# Altium integrated library MotorDrive.IntLib: 32 symbols
Pins are listed as number, name and electrical type; pins without a type are passive.

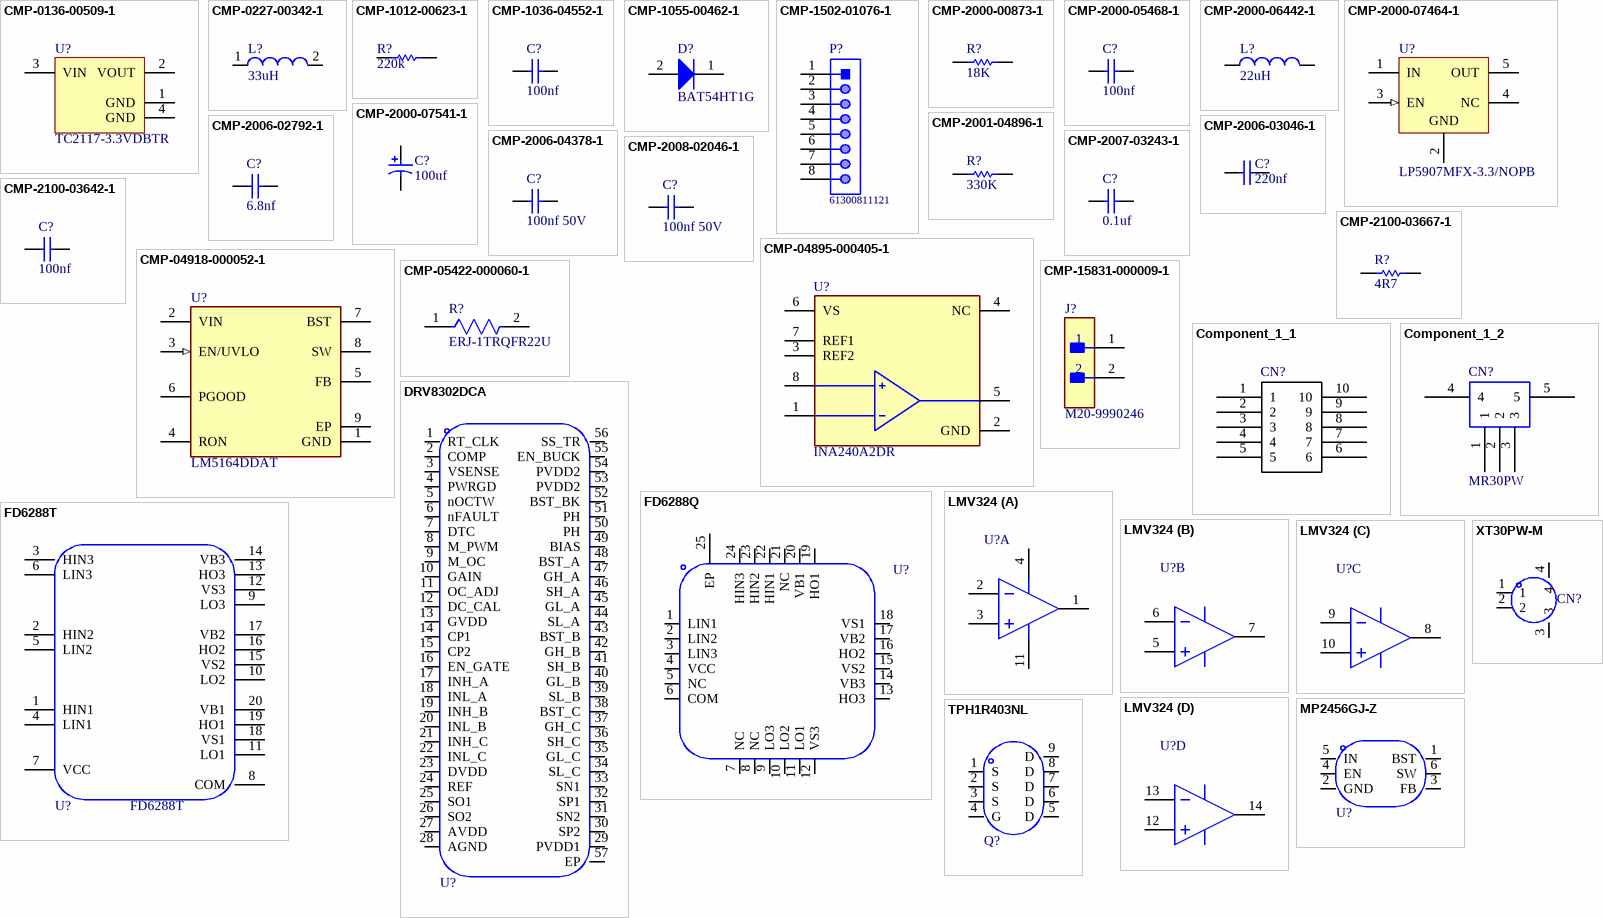
[diagram p0: symbols CMP-0136-00509-1 to XT30PW-M]

## CMP-0136-00509-1
designator U?, comment TC2117-3.3VDBTR
800 mA Fixed Low Dropout Positive Regulator, 3-Pin SOT-223, Extended Temperature, Tape and Reel; PackageVersion: revBB, Aug-2009; DatasheetVersion: revC, Oct-2006; PackageReference: SOT-223-DB3; PackageDescription: 3-Lead Plastic Small Outline Transistor (DB) [SOT-223]
footprint SOT-223-DB3_N (SOT223, 4-Leads, Body 6.5x3.5mm, Pitch 2.3mm, Lead Span 7mm, IPC Medium Density)
footprint SOT-223-DB3_L (SOT223, 4-Leads, Body 6.5x3.5mm, Pitch 2.3mm, Lead Span 7mm, IPC High Density)
footprint SOT-223-DB3_M (SOT223, 4-Leads, Body 6.5x3.5mm, Pitch 2.3mm, Lead Span 7mm, IPC Low Density)
pins: 1 GND (power), 2 VOUT (power), 3 VIN (power), 4 GND (power)

## CMP-0227-00342-1
designator L?, comment 33uH
SMD Shielded Tiny Power Inductor WE-TPC, L = 33.0 µH; Inductance: 33.0 ÂµH; ComponentLink2URL: http://www.we-online.de/katalog/media/pdf/744043330.pdf; PackageDescription: SMD Inductor, 2-Leads, Body 4.8 x 4.8 mm; DatasheetVersion: ver 6, Aug-2010; ComponentLink1Description: Manufacturer Link; ComponentLink2Description: Datasheet; PackageVersion: 2010; ComponentLink1URL: http://www.we-online.com; PackageReference: WE-TPC-4828-MH
footprint WE-TPC-4828-MH (SMD Inductor, 2-Leads, Body 4.8x4.8x3.0 mm)
pins: 1, 2

## CMP-1012-00623-1
designator R?, comment 220k
10K 0.1W 1% 0603 (1608 Metric)  SMD; Value: 10000.00 Ohm; Case-EIA: 0603; Case-Metric: 1608; Power: 0.1 W; Tolerance: 1 %; Technology: SMT
footprint RESC0603(1608)_N (Chip Resistor, Body 1.6x0.8mm, IPC Medium Density)
footprint RESC0603(1608)_L (Chip Resistor, Body 1.6x0.8mm, IPC High Density)
footprint RESC0603(1608)_M (Chip Resistor, Body 1.6x0.8mm, IPC Low Density)
pins: 1, 2
1 alternate drawing of the same symbol

## CMP-1036-04552-1
designator C?, comment 100nf
CAP 220nF 50V ±10% 0805 (2012 Metric) Thickness 1.45mm SMD; Tolerance: Â±10%; Case-Metric: 2012; Case-EIA: 0805; Value: 220nF; Max Thickness: 1.45 mm; Technology: SMT; Rated Voltage: 50 V
footprint CAPC0805(2012)145_N (Chip Capacitor, Body 2.0x1.2mm, Height 1.45mm, IPC Medium Density)
footprint CAPC0805(2012)145_L (Chip Capacitor, Body 2.0x1.2mm, Height 1.45mm, IPC High Density)
footprint CAPC0805(2012)145_M (Chip Capacitor, Body 2.0x1.2mm, Height 1.45mm, IPC Low Density)
pins: 1, 2
1 alternate drawing of the same symbol

## CMP-1055-00462-1
designator D?, comment BAT54HT1G
Schottky Barrier Diode, 2-Pin SOD-323, Pb-Free, Tape and Reel; Manufacturer: On Semiconductor; Configuration: Single; trr Max (ns): 5; IFSM Max (A): 0.6; ComponentLink3URL: http://www.onsemi.com/pub_link/Collateral/477-02.PDF.1; PackageDescription: 2-Pin SOD, Body 1.7 x 1.25 mm; ComponentLink2URL: http://www.onsemi.cn/pub_link/Collateral/BAT54HT1-D.PDF; ComponentLink3Description: Package Specification; ComponentLink2Description: Datasheet; DatasheetVersion: Rev. 6; PackageReference: SOD-323-2-477-02; RoHS: TRUE; ComponentLink1URL: http://www.onsemi.com/; Packing: Tape and Reel; PartNumber: BAT54HT1G; Mounting Technology: Surface Mount; ComponentLink1Description: Manufacturer URL; PackageVersion: Rev. H, 03/2007
footprint ONSC-SOD-323-2-477-02_V (SOD, 2-Leads, Body 1.7x1.25mm)
pins: 1 K, 2 A

## CMP-1502-01076-1
designator P?, comment 61300811121
THT Vertical Pin Header WR-PHD, Pitch 2.54 mm, Single Row, 8 pins; Manufacturer: Wurth Elektronik; Rated Current: 3A; Pin Number: 8; Working Voltage: 250VAC; Gender: Male; Contact Resistance: 20mOhm; Pitch: 2.54mm; Withstanding Voltage: 500VAC; Publisher: WurthElektronik; Operating Temperature: -40to105degC; Orientation: Vertical; Row Number: Single; Part Number: 61300811121; Package Reference: 61300811121; Mounting Technology: THT; Packaging: Bag; Manufacturer URL: http://www.we-online.de; Datasheet URL: https://katalog.we-online.de/em/datasheet/6130xx11121.pdf
footprint 61300811121 (Pin Header, pitch 2.54 mm, THT, Vertical, single row, 8p)
pins: 1, 2, 3, 4, 5, 6, 7, 8

## CMP-2000-00873-1
designator R?, comment 18K
Manufacturer: Panasonic; Part Number: ERA3AEB102V
footprint RESC1608X55X30LL20T20 (Chip Resistor, 2-Leads, Body 1.60x0.80mm, IPC High Density)
footprint RESC1608X55X30ML20T20 (Chip Resistor, 2-Leads, Body 1.60x0.80mm, IPC Low Density)
footprint RESC1608X55X30NL20T20 (Chip Resistor, 2-Leads, Body 1.60x0.80mm, IPC Medium Density)
pins: 1, 2
1 alternate drawing of the same symbol

## CMP-2000-05468-1
designator C?, comment 100nf
Chip Capacitor, 1 nF, +/- 10%, -55 to 125 degC, 1206 (3216 Metric), RoHS, Tape and Reel; PartNumber: 1206GC102KAT1A; Manufacturer: AVX; Capacitance: 0.001uF; Dielectric: X7R; Voltage Rating DC: 2000V; Package Reference: 1206; Datasheet Version: 11/2010; Mounting Technology: SurfaceMount; Manufacturer URL: http://www.avx.com/; Tolerance: 10%; Tolerance (%): ±10%; Datasheet URL: https://datasheet.ciiva.com/11787/0900766b80ed4c37-11787781.pdf; Package Description: 2-Pin SMD, Body 3.4 x 1.8 mm; Case Size/Dimension: 1206; Rated Voltage: 2000V
footprint AVX-1206-2_L (SMD, 2-Leads, Body 3.4x1.8mm, IPC High Density)
footprint AVX-1206-2_M (SMD, 2-Leads, Body 3.4x1.8mm, IPC Low Density)
footprint AVX-1206-2_N (SMD, 2-Leads, Body 3.4x1.8mm, IPC Medium Density)
pins: 1, 2

## CMP-2000-06442-1
designator L?, comment 22uH
Low Profile, High Current IHLP(R) Inductor, 22 uH, +/- 20%, 2.9 A, -55 to 125 degC, 2-Pin SMD, RoHS, Tape and Reel; Manufacturer: Vishay; Inductance: 22µH; Frequency - Test: 100kHz; Product Training Modules: IHLPInductorSeries; DC Resistance (DCR): 135mOhmMax; Shielding: Shielded; Current Rating: 2.9A; Current - Saturation: 2.5A; Series: IHLP-2525CZ-11; Package Description: 2-Pin Surface Mount Device, Body 6.86 x 6.47 mm; Package Reference: IHLP2525CZER220M11; Size / Dimension: 0.270"Lx0.255"Wx0.118"H(6.86mmx6.47mmx3.00mm); Category: Inductors,Coils,Chokes; Mounting Technology: SurfaceMount; Operating Temperature: -55°C~125°C; Tolerance: ±20%; Manufacturer URL: http://www.vishay.com/; Family: FixedInductors; Standard Package: 2,000; Packaging: Tape&Reel(TR); Mounting Type: SurfaceMount; Package / Case: NonStandard; Datasheet Version: 09/2013; Datasheet URL: https://datasheet.ciiva.com/11798/0900766b8102c935-11798417.pdf
footprint VISH-IHLP2525CZER220M11_V (SMD, 2-Leads, Body 7.24x6.72mm)
pins: 1, 2

## CMP-2000-07464-1
designator U?, comment LP5907MFX-3.3/NOPB
Ultra-Low-Noise, Low-IQ LDO, 0.25 A, Fixed 3.3 V Output, 2.2 to 5.5 V Input, -40 to 125 degC, 5-Pin SOT-23 (DBV), Green (RoHS & no Sb/Br), Tape and Reel; Manufacturer: Texas Instruments; Max Output Current: 250mA; Max Input Voltage: 5.5V; Dropout Voltage: 250mV; Number of Regulators: 1; Nominal Output Voltage: 3.3V; Output Voltage Accuracy: 2%; Polarity: Positive; Min Input Voltage: 2.2V; Package Version: 4073253-4/N, 12/2014; Quiescent Current: 425uA; Power Supply Rejection Ratio (PSRR): 82dB; Case\/Package: SOT-23; Lead Free: LeadFree; Package Reference: DBV5; Output Current: 250mA; Package Description: 5-Pin Small Outline Transistor, Body 2.9 x 1.6 mm, Pitch 0.95 mm; Max Operating Temperature: 125degC; Mounting Technology: SurfaceMount; Number of Pins: 5; Mount: SurfaceMount; Manufacturer URL: http://www.ti.com/; Accuracy: 2%; Package URL: http://www.ti.com/lit/ml/mpds018l/mpds018l.pdf; Output Voltage: 3.3V; Radiation Hardening: No; Number of Outputs: 1; Packaging: TapeandReel; RoHSCompliant: true; Min Operating Temperature: -40degC; Datasheet URL: http://www.ti.com/lit/ds/symlink/lp5907.pdf; Package Quantity: 3000; Datasheet Version: Rev. L, 09/2016; REACH SVHC: NoSVHC; Contact Plating: Tin
footprint DBV0005A_L (SOT23, 5-Leads, Body 3.05x1.75mm, Pitch 0.95mm, IPC High Density)
footprint DBV0005A_M (SOT23, 5-Leads, Body 3.05x1.75mm, Pitch 0.95mm, IPC Low Density)
footprint DBV0005A_N (SOT23, 5-Leads, Body 3.05x1.75mm, Pitch 0.95mm, IPC Medium Density)
pins: 1 IN (power) "Input voltage supply. A 1-uF capacitor should be connected at this input.", 2 GND (power) "Common ground", 3 EN (in) "Enable input. A low voltage (< VIL) on this pin turns the regulator off and discharges the output pin to GND through an internal 230-Ohm pulldown resistor. A high voltage (> VIH) on this pin enables the regulator output. (See Datasheet)", 4 NC "No internal electrical connection.", 5 OUT (power) "Regulated output voltage. A minimum 1-uF low-ESR capacitor should be connected to this pin. Connect this output to the load circuit. An internal 230-Ohm (typical) pulldown resistor prevents a charge remaining on VOUT when (See Datasheet)"

## CMP-2000-07541-1
designator C?, comment 100uf
Tantalum Surface Mount Capacitor, 100 uF, +/- 10%, 16 V, -55 to 125 degC, 2917 (7343 Metric), RoHS, Tape and Reel; Manufacturer: Kemet; ESR (Equivalent Series Resistance): 700mOhm; Dissipation Factor: 8%; Voltage Rating (DC): 16V; Case\/Package: Molded; Polarity: Polar; Life (Hours): 2000Hour; Leakage Current: 16uA; Ripple Current: 463mA; RoHSCompliant: true; Datasheet Version: 07/2017; Case Code (Imperial): 2917; Width: 4.3mm; Height: 2.8mm; Min Operating Temperature: -55degC; Length: 7.3mm; Package Reference: T491-D; Dielectric Material: Tantalum; Packaging: TapeandReel; Max Operating Temperature: 125degC; Package Description: 2-Pin Surface Mount Device, Body 7.3 x 4.3 mm; Capacitance: 100uF; Package Quantity: 1; Lead Free: LeadFree; Case Code (Metric): 7343; Voltage: 16V; Voltage Rating: 16V; Tolerance: 10%; Weight: 0.023634oz; Termination: SMD/SMT; Lead Pitch: 3.6mm; Manufacturer URL: http://www.kemet.com/; Datasheet URL: http://www.kemet.com/Lists/ProductCatalog/Attachments/254/KEM_T2005_T491.pdf; Radiation Hardening: No; Mount: PCB; Height - Seated (Max): 0.122inch; Mounting Technology: SurfaceMount; Depth: 4.3mm; REACH SVHC: NoSVHC
footprint KEMT-T491-D_L (Molded Capacitor, 2-Leads, Body 7.60x4.60mm, IPC High Density)
footprint KEMT-T491-D_M (Molded Capacitor, 2-Leads, Body 7.60x4.60mm, IPC Low Density)
footprint KEMT-T491-D_N (Molded Capacitor, 2-Leads, Body 7.60x4.60mm, IPC Medium Density)
pins: 1, 2

## CMP-2001-04896-1
designator R?, comment 330K
Manufacturer: Vishay Dale; Part Number: CRCW08050000Z0EA
footprint RESC2013X50X30LL20T20 (Chip Resistor, 2-Leads, Body 2.00x1.25mm, IPC High Density)
footprint RESC2013X50X30ML20T20 (Chip Resistor, 2-Leads, Body 2.00x1.25mm, IPC Low Density)
footprint RESC2013X50X30NL20T20 (Chip Resistor, 2-Leads, Body 2.00x1.25mm, IPC Medium Density)
pins: 1, 2
1 alternate drawing of the same symbol

## CMP-2006-02792-1
designator C?, comment 6.8nf
Part Number: GRM188R60J106ME47D; Manufacturer: Murata
footprint CAPC1608X90X35NL10T15 (Chip Capacitor, 2-Leads, Body 1.60x0.80mm, IPC Medium Density)
footprint CAPC1608X90X35ML10T15 (Chip Capacitor, 2-Leads, Body 1.60x0.80mm, IPC Low Density)
footprint CAPC1608X90X35LL10T15 (Chip Capacitor, 2-Leads, Body 1.60x0.80mm, IPC High Density)
pins: 1, 2
1 alternate drawing of the same symbol

## CMP-2006-03046-1
designator C?, comment 220nf
Manufacturer: Kemet; Part Number: C0603C103K5RAC7867
footprint CAPC1608X87X35ML15T15 (Chip Capacitor, 2-Leads, Body 1.60x0.80mm, IPC Low Density)
footprint CAPC1608X87X35NL15T15 (Chip Capacitor, 2-Leads, Body 1.60x0.80mm, IPC Medium Density)
footprint CAPC1608X87X35LL15T15 (Chip Capacitor, 2-Leads, Body 1.60x0.80mm, IPC High Density)
pins: 1, 2
1 alternate drawing of the same symbol

## CMP-2006-04378-1
designator C?, comment 100nf 50V
Manufacturer: AVX Interconnect / Elco; Part Number: 06035C102KAT2A
footprint CAPC1608X90X35LL15T15 (Chip Capacitor, 2-Leads, Body 1.60x0.81mm, IPC High Density)
footprint CAPC1608X90X35ML15T15 (Chip Capacitor, 2-Leads, Body 1.60x0.81mm, IPC Low Density)
footprint CAPC1608X90X35NL15T15 (Chip Capacitor, 2-Leads, Body 1.60x0.81mm, IPC Medium Density)
pins: 1, 2
1 alternate drawing of the same symbol

## CMP-2007-03243-1
designator C?, comment 0.1uf
Part Number: C0805C106K8PACTU; Manufacturer: Kemet
footprint CAPC2013X140X50LL20T25 (Chip Capacitor, 2-Leads, Body 2.00x1.25mm, IPC High Density)
footprint CAPC2013X140X50ML20T25 (Chip Capacitor, 2-Leads, Body 2.00x1.25mm, IPC Low Density)
footprint CAPC2013X140X50NL20T25 (Chip Capacitor, 2-Leads, Body 2.00x1.25mm, IPC Medium Density)
pins: 1, 2
1 alternate drawing of the same symbol

## CMP-2008-02046-1
designator C?, comment 100nf 50V
Manufacturer: Kemet; Part Number: C0402C104K8PACTU
footprint CAPC1005X60X30ML05T10 (Chip Capacitor, 2-Leads, Body 1.00x0.50mm, IPC Low Density)
footprint CAPC1005X60X30NL05T10 (Chip Capacitor, 2-Leads, Body 1.00x0.50mm, IPC Medium Density)
footprint CAPC1005X60X30LL05T10 (Chip Capacitor, 2-Leads, Body 1.00x0.50mm, IPC High Density)
pins: 1, 2
1 alternate drawing of the same symbol

## CMP-2100-03642-1
designator C?, comment 100nf
Chip Capacitor, 10 nF, +/- 10%, 50 V, -55 to 125 degC, 0603 (1608 Metric), RoHS, Tape and Reel; Manufacturer: Murata; Insulation Resistance: 10GR; Dielectric: X7R; Voltage Rating: 50V; Capacitance: 10nF; Material: Ceramic; Package Quantity: 1; Lead Free: LeadFree; Case/Package: 0603; Termination: SMD/SMT; REACH SVHC: Unknown; Manufacturer URL: http://www.murata.com/; Datasheet URL: http://search.murata.co.jp/Ceramy/image/img/A01X/G101/ENG/GRM188R71H103KA01-01.pdf; Mount: SurfaceMount; Datasheet Version: 42401.0; Number of Pins: 2; Length: 1.6mm; Voltage: 50V; Depth: 0.8mm; Tolerance: 10%; Min Operating Temperature: -55degC; Voltage Rating (DC): 50V; Max Operating Temperature: 125degC; Package Description: 2-Pin Surface Mount Device, Body 1.6 x 0.8 mm; RoHSCompliant: True; Case Code (Imperial): 0603; Width: 0.031inch; Case Code (Metric): 1608; Height: 0.8mm; Package Reference: 0603; Packaging: TapeandReel; Thickness: 0.035inch; Dielectric Material: Ceramic
footprint CAPC1608X90X35ML10T15 (Chip Capacitor, 2-Leads, Body 1.7x0.9mm, IPC Low Density)
footprint CAPC1608X90X35NL10T15 (Chip Capacitor, 2-Leads, Body 1.7x0.9mm, IPC Medium Density)
footprint CAPC1608X90X35LL10T15
pins: 1, 2

## CMP-2100-03667-1
designator R?, comment 4R7
Chip Resistor, 0 Ohm, +/- 5%, 0.1 W, -55 to 155 degC, 0603 (1608 Metric), RoHS, Tape and Reel; Manufacturer: Yageo; Temperature Coefficient: 200ppm/degreesC; Voltage Rating: 50V; Power Rating: 100mW; Resistance: 0mOhm; Width: 0.8mm; Max Operating Temperature: 155degC; Tolerance: 5%; Package Reference: 0603; Height: 0.45mm; Depth: 0.8mm; Package Description: 2-Pin Surface Mount Device, Body 1.6 x 0.8 mm; Termination: SMD/SMT; Package Quantity: 5000; Case/Package: 0603; Case Code (Imperial): 0603; Radiation Hardening: No; Number of Pins: 2; Length: 1.6mm; Lead Free: LeadFree; Voltage Rating (DC): 50V; Military Standard: Not; Datasheet URL: http://www.yageo.com/NewPortal/yageodocoutput?fileName=/pdf/R-Chip/PYu-RC_Group_51_RoHS_L_5.pdf; Manufacturer URL: http://www.yageo.com/; Packaging: TapeandReel; Case Code (Metric): 1608; Min Operating Temperature: -55degC; Composition: ThickFilm; RoHSCompliant: true; Contact Plating: Tin; Datasheet Version: Rev. 5, 10/2016; REACH SVHC: NoSVHC
footprint RESC1608X55X25ML10T15 (Chip Resistor, 2-Leads, Body 1.60x0.80mm, IPC Low Density)
footprint RESC1608X55X25NL10T15 (Chip Resistor, 2-Leads, Body 1.70x0.90mm, IPC Medium Density)
footprint RESC1608X55X25LL10T15 (Chip Resistor, 2-Leads, Body 1.60x0.80mm, IPC High Density)
pins: 1, 2

## CMP-04895-000405-1
designator U?, comment INA240A2DR
IC CURR SENSE 1 CIRCUIT 8SOIC; Operating Supply Current: 1.8mA; -3db Bandwidth: 400kHz; Slew Rate: 2V/µs; Input Bias Current: 90uA; Number of Circuits: 1; Input Offset Voltage (Vos): 5uV; Packaging: Tape and Reel; Mount: Surface Mount; Case/Package: SOIC; Number of Pins: 8; Min Operating Temperature: -40°C; RoHS Compliant: Yes; Max Operating Temperature: 125°C
footprint FP-D0008A-IPC_C
footprint FP-D0008A-MFG
footprint FP-D0008A-IPC_A
footprint FP-D0008A-IPC_B
pins: 1 IN-, 2 GND (power), 3 REF2, 4 NC, 5 OUT, 6 VS (power), 7 REF1, 8 IN+

## CMP-04918-000052-1
designator U?, comment LM5164DDAT
IC REG BUCK ADJUSTABLE 1A 8SOPWR; Manufacturer: Texas Instruments; Nominal Supply Current: 600uA; Switching Frequency: 1000kHz; Number Of Outputs: 1; Min Supply Voltage: 6V; Max Junction Temp: +150°C; Max Duty Cycle: 100%; Output Voltage: 1.2-90V; Output Type: AdjustableProgrammable; Max Supply Voltage: 100V; Standoff Height: 0mm; Device Class L1: Integrated Circuits (ICs); Temperature Range High: +150°C; Lead Free: Yes; Temperature: -40°C to +150°C; Category: IC; Device Class L2: Power Management ICs; Digikey Description: IC REG BUCK ADJUSTABLE 1A 8SOPWR; Mouser Description: 6-V to 100-V input, 1-A synchronous buck DC-DC converter with ultra-low IQ 8-SO PowerPAD -40 to 150; Temperature Range Low: -40°C; Octopart: https://octopart.com/lm5164ddat-texas+instruments-96785745; ComponentLink2Description: Datasheet; Manufacturer Part Number: LM5164DDAT; Device Class L3: Voltage Regulators - Switching; Package: DDA0008E; RoHS: TRUE; Ipc Land Pattern Name: SOIC127P600X170-8; Output Current: 1A; Automotive: No; ComponentLink2URL: http://www.ti.com/lit/ds/symlink/lm5164.pdf; Height: 1.7mm; Switching Topology: Buck
footprint FP-DDA0008E-MFG
footprint FP-DDA0008E-IPC_C
footprint FP-DDA0008E-IPC_B
footprint FP-DDA0008E-IPC_A
pins: 1 GND (power), 2 VIN (power), 3 EN/UVLO (in), 4 RON, 5 FB, 6 PGOOD (oc), 7 BST, 8 SW, 9 EP (power)

## CMP-05422-000060-1
designator R?, comment ERJ-1TRQFR22U
RES 0.22 OHM 1% 1W 2512; Manufacturer: Panasonic; 3DS Part Number: 110-00006; Value: 0.22Ω; Automotive Grade: Grade 0; Temperature Coefficient: 200ppm/°C; Digikey Description: RES 0.22 OHM 1% 1W 2512; Tolerance: 1%; Temperature Range High: +155°C; Temperature Range Low: -55°C; Series: ERJ; Category: Res; Power Rating: 1W; ComponentLink2URL: https://industrial.panasonic.com/cdbs/www-data/pdf/RDN0000/AOA0000C313.pdf; Device Class L1: Passive Components; Octopart: https://octopart.com/erj1trqfr22u-panasonic-10566390; Device Class L3: Chip SMD Resistors; Temperature: -55°C to +155°C; Composition: Thick Film; Device Class L2: Resistors; Footprint Url: https://industrial.panasonic.com/cdbs/www-data/pdf/RDN0000/DMN0000COL17.pdf; Ipc Land Pattern Name: RESC640320X60; Package: ERJ1TR; Resistance: 0.22Ω; Mouser Description: Current Sense Resistors 2512 0.22ohm 1% Curr Sense AEC-Q200; Manufacturer Part Number: ERJ-1TRQFR22U; RoHS: TRUE; ComponentLink2Description: Datasheet; Lead Free: Yes; Height: 0.7mm; Automotive: Yes
footprint FP-ERJ1TR-MFG
footprint FP-ERJ1TR-IPC_C
footprint FP-ERJ1TR-IPC_B
footprint FP-ERJ1TR-IPC_A
pins: 1, 2

## CMP-15831-000009-1
designator J?, comment M20-9990246
CONN HEADER VERT 2POS 2.54MM; Manufacturer: Harwin; Conn Gender: Male; Conn Orientation: Vertical; Number Of Contacts: 2; Current Rating: 3A; ComponentLink2URL: https://cdn.harwin.com/pdfs/M20-999.pdf; ComponentLink2Description: Datasheet; Package: M20-9990246; Temperature: -40°C to +105°C; Octopart: https://octopart.com/m20-9990246-harwin-2590635; Mouser Description: 2.54mm (0.1") Pitch SIL Vertical PC Tail Pin Header, 6.1mm mating pin height, tin, 2 contacts; Temperature Range High: +105°C; Device Class L1: Connectors; RoHS: TRUE; Automotive: No; Height: 8.99mm; Number Of Rows: 1; Contact Material: Tin,Nickel; Category: Conn; Pitch: 2.54mm; Lead Free: Yes; Digikey Description: CONN HEADER VERT 2POS 2.54MM; Manufacturer Part Number: M20-9990246; Temperature Range Low: -40°C; Device Class L3: unset; Device Class L2: Headers and Wire Housings
footprint FP-M20-9990246-MFG
pins: 1, 2

## Component_1_1
designator CN?
footprint 2X10Pin (P)
pins: 1, 2, 3, 4, 5, 6, 7, 8, 9, 10

## Component_1_2
designator CN?, comment MR30PW
footprint MR30
pins: 1, 2, 3, 4, 5

## DRV8302DCA
designator U?  (value not drawn)
Manufacturer: TI(德州仪器); Add into BOM: yes; Symbol: DRV8302DCA; Device: DRV8302DCA; LCSC Part Name: DRV8302DCA; Supplier Part: C84672; Manufacturer Part: DRV8302DCA; Supplier Footprint: TSSOP-56; JLCPCB Part Class: Extended Part; Datasheet: https://atta.szlcsc.com/upload/public/pdf/source/20161024/1477288665464.pdf; Supplier: LCSC; Convert to PCB: yes
footprint HTSSOP-56_L14.0-W6.0-P0.50-LS8.0-BL
3D model HTSSOP-56_L14.0-W6.1-H1.2-LS8.2-P0.50
pins: 1 RT_CLK, 2 COMP, 3 VSENSE, 4 PWRGD, 5 nOCTW, 6 nFAULT, 7 DTC, 8 M_PWM, 9 M_OC, 10 GAIN, 11 OC_ADJ, 12 DC_CAL, 13 GVDD, 14 CP1, 15 CP2, 16 EN_GATE, 17 INH_A, 18 INL_A, 19 INH_B, 20 INL_B, 21 INH_C, 22 INL_C, 23 DVDD, 24 REF, 25 SO1, 26 SO2, 27 AVDD, 28 AGND, 29 PVDD1, 30 SP2, 31 SN2, 32 SP1, 33 SN1, 34 SL_C, 35 GL_C, 36 SH_C, 37 GH_C, 38 BST_C, 39 SL_B, 40 GL_B, 41 SH_B, 42 GH_B, 43 BST_B, 44 SL_A, 45 GL_A, 46 SH_A, 47 GH_A, 48 BST_A, 49 BIAS, 50 PH, 51 PH, 52 BST_BK, 53 PVDD2, 54 PVDD2, 55 EN_BUCK, 56 SS_TR, 57 EP

## FD6288Q
designator U?  (value not drawn)
Manufacturer: Fortior Tech(峰岹); Symbol: FD6288Q_C328453; Add into BOM: yes; Device: FD6288Q; LCSC Part Name: FD6288Q; Supplier Part: C328453; Manufacturer Part: FD6288Q; Supplier Footprint: QFN-24; JLCPCB Part Class: Extended Part; Datasheet: https://atta.szlcsc.com/upload/public/pdf/source/20181108/C328453_785547738DB9FC0123219FC22539EFAD.pdf; Supplier: LCSC; Convert to PCB: yes
footprint QFN-24_L4.0-W4.0-P0.50-BL-EP2.6
3D model QFN-24_L4.0-W4.0-H0.9-P0.50
pins: 1 LIN1, 2 LIN2, 3 LIN3, 4 VCC, 5 NC, 6 COM, 7 NC, 8 NC, 9 LO3, 10 LO2, 11 LO1, 12 VS3, 13 HO3, 14 VB3, 15 VS2, 16 HO2, 17 VB2, 18 VS1, 19 HO1, 20 VB1, 21 NC, 22 HIN1, 23 HIN2, 24 HIN3, 25 EP

## FD6288T
designator U?
Manufacturer: Fortior Tech(峰岹); Symbol: FD6288; Add into BOM: yes; Device: FD6288T; LCSC Part Name: FD6288T; Supplier Part: C97683; Manufacturer Part: FD6288T; Supplier Footprint: TSSOP-20; JLCPCB Part Class: Extended Part; Datasheet: https://atta.szlcsc.com/upload/public/pdf/source/20180912/C97683_ECE58C9DF7F061C95E95DF4276B152DC.pdf; Supplier: LCSC; Convert to PCB: yes
footprint TSSOP-20_L6.5-W4.4-P0.65-LS6.4-BL
3D model TSSOP-20_L6.5-W4.4-H1.0-LS6.4-P0.65
pins: 1 HIN1, 2 HIN2, 3 HIN3, 4 LIN1, 5 LIN2, 6 LIN3, 7 VCC, 8 COM, 9 LO3, 10 LO2, 11 LO1, 12 VS3, 13 HO3, 14 VB3, 15 VS2, 16 HO2, 17 VB2, 18 VS1, 19 HO1, 20 VB1

## LMV324
designator U?
Manufacturer: IDCHIP(英锐芯); Symbol: LMV324; Add into BOM: yes; Device: LMV324; LCSC Part Name: LMV324; Supplier Part: C395458; Manufacturer Part: LMV324; Supplier Footprint: SOP-14; JLCPCB Part Class: Extended Part; Datasheet: https://atta.szlcsc.com/upload/public/pdf/source/20190621/C395458_73BC997AE56D73F633AABC289F159708.pdf; Supplier: LCSC; Convert to PCB: yes; Amplifier Type: -; Number of Circuits: -; -3db Bandwidth（G=1）: -; Current - Input Bias（Ib）: -; Voltage - Input Offset（Vos）: -; Gain Bandwidth Product（GBP）: -; Slew Rate（SR）: -; Output Type: -; Supply Voltage（Single）: -; Iq per channel (Typ): -; Operating Temperature: -
footprint SOP-14_L8.6-W3.9-P1.27-LS6.0-BL
3D model SOP-14_L8.6-W3.9-H1.6-LS6.0-P1.27
part A pins: 1 1OUT, 2 1IN-, 3 1IN+, 4 VCC, 11 GND
part B pins: 5 2IN+, 6 2IN-, 7 2OUT
part C pins: 8 3OUT, 9 3IN-, 10 3IN+
part D pins: 12 4IN+, 13 4IN-, 14 4OUT

## MP2456GJ-Z
designator U?  (value not drawn)
Add into BOM: yes; Symbol: MP2456GJ-Z; Device: MP2456GJ-Z; LCSC Part Name: MP2456GJ-Z; Supplier Part: C88045; Manufacturer Part: MP2456GJ-Z; Supplier Footprint: TSOT-23-6; JLCPCB Part Class: Extended Part; Supplier: LCSC; Convert to PCB: yes; Output Type: -; Number of Outputs: -; Voltage - Input (Min): -; Voltage - Input (Max): -; Voltage - Output (Min/Fixed): -; Voltage - Output (Max): -; Current - Output: -; Frequency - Switching: -; Function: -; Synchronous Rectifier: -; Output Configuration: -; Topology: -
footprint TSOT-23-6_L2.9-W1.6-P0.95-LS2.8-BR
3D model TSOT-23-6_L2.9-W1.6-H1.1-LS2.8-P0.95
pins: 1 BST, 2 GND, 3 FB, 4 EN, 5 IN, 6 SW

## TPH1R403NL
designator Q?  (value not drawn)
Manufacturer: TOSHIBA(东芝); Add into BOM: yes; Type: N沟道; Drain Source Voltage (Vdss): 30V; Continuous Drain Current (Id): 150A; Power Dissipation (Pd): 64W; Drain Source On Resistance (RDS(on)@Vgs,Id): 1.4mΩ@10V,30A; Gate Threshold Voltage (Vgs(th)@Id): 2.3V@500A; Symbol: TPH1R403NL; Device: TPH1R403NL; LCSC Part Name: N沟道 30V 150A; Supplier Part: C83440; Manufacturer Part: TPH1R403NL; Supplier Footprint: SOP Advance; JLCPCB Part Class: Extended Part; Datasheet: https://atta.szlcsc.com/upload/public/pdf/source/20170908/C83440_1504870121708958077.pdf; Supplier: LCSC; Convert to PCB: yes
footprint DSOP-8_L5.0-W5.0-P1.27-EP-TL
3D model DSOP-8_L5.0-W5.0-H0.7-LS6.0-P1.27
pins: 1 S, 2 S, 3 S, 4 G, 5 D, 6 D, 7 D, 8 D, 9 D

## XT30PW-M
designator CN?  (value not drawn)
Manufacturer: AMASS(艾迈斯); Add into BOM: yes; Symbol: XT30PW-M; Device: XT30PW-M; LCSC Part Name: XT30PW-M公头; Supplier Part: C431092; Manufacturer Part: XT30PW-M; Supplier Footprint: Through Hole; JLCPCB Part Class: Extended Part; Datasheet: https://atta.szlcsc.com/upload/public/pdf/source/20220222/6A9F22F7850E25B33E1BE430ADF8560B.pdf; Supplier: LCSC; Convert to PCB: yes
3D model CONN-TH_XT30PW-M
footprint CONN-TH_XT30PW-M
pins: 1, 2, 3, 4